# EAGLE library part A8586 (library ICs)
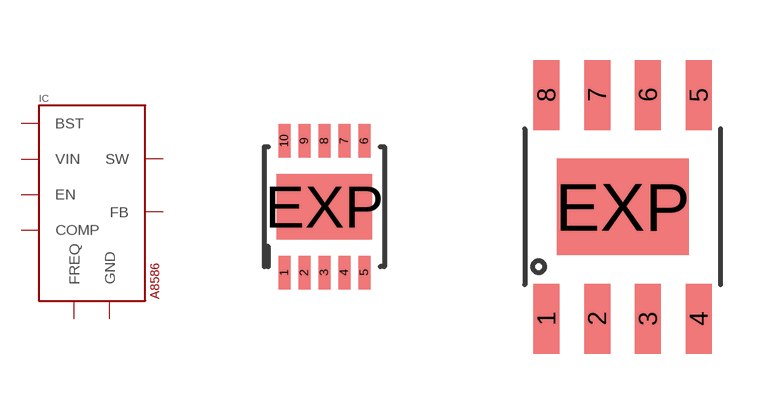
[diagram p0: symbol with the pads of 10PIN-DFN; footprints 10PIN-DFN, 8PIN-SOIC]

Designator prefix IC

## A8586DFN (MN: Allegro; MN_CODE: A8586KEJTR-T)  [10PIN-DFN]
1  SW
2  SW
3  EN
4  COMP
5  FB
6  GND
7  FREQ
8  VIN
9  VIN
10  BST
EXP  GND

## A8586SOIC (MN: Allegro; MN_CODE: A8586KLJTR-T; ORDER: DIGIKEY; ORDER_CODE: 620-1716-2-ND)  [8PIN-SOIC]
1  SW
2  EN
3  COMP
4  FB
5  GND
6  FREQ
7  VIN
8  BST
EXP  GND

## Footprint 10PIN-DFN (pad centres in mm)
smd 0.3 x 0.85: 1 -1,-1.65; 2 -0.5,-1.65; 3 0,-1.65; 4 0.5,-1.65; 5 1,-1.65; 6 1,1.65; 7 0.5,1.65; 8 0,1.65; 9 -0.5,1.65; 10 -1,1.65
smd 2.38 x 1.64: EXP 0,0

## Footprint 8PIN-SOIC (pad centres in mm)
smd 0.65 x 1.75: 1 -1.905,-2.8; 2 -0.635,-2.8; 3 0.635,-2.8; 4 1.905,-2.8; 5 1.905,2.8; 6 0.635,2.8; 7 -0.635,2.8; 8 -1.905,2.8
smd 3.3 x 2.41: EXP 0,0